# EAGLE library part SOT-23-6 (library smd-footprints)
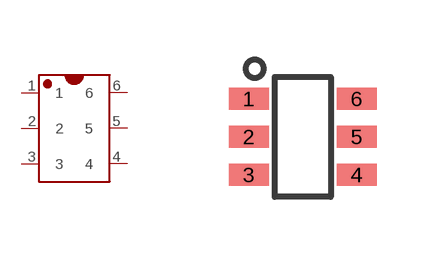
[diagram p0: symbol with the pads of SOT-23-6; footprint SOT-23-6]

Designator prefix -

## SOT-23-6  [SOT-23-6]
1  1
2  2
3  3
4  4
5  5
6  6

## Footprint SOT-23-6 (pad centres in mm)
smd 1 x 0.55: 1 -1.35,0.95; 2 -1.35,0; 3 -1.35,-0.95; 4 1.35,-0.95; 5 1.35,0; 6 1.35,0.95